# EAGLE library part SN74LVC2G241 (library bschulz)
SN74LVC2G241 - Dual Buffer and Driver with 3-State Outputs Characteristics: VCC: 1.65~5.5V Operating Temperature: -40°C to 85°C Number of Bits: 2 Inverting: No 5V Tolerent Input (Down Shift) Digikey: 296-32323-1-ND (VSSOP, DCU) <https://www.digikey.com/en/products/detail/texas-instruments/SN74LVC2G241DCUT/1592289> 296-11935-1-ND (MSOP, DCT) <https://www.digikey.com/en/products/detail/texas-instruments/SN74LVC2G241DCTR/389055>
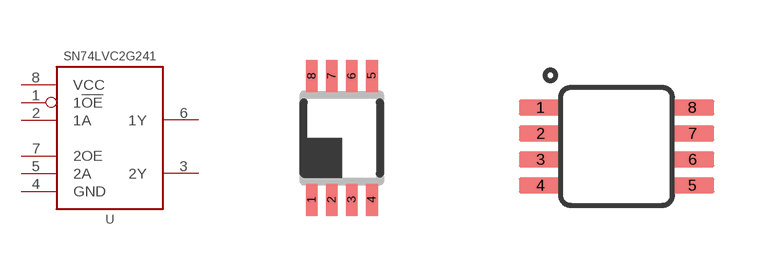
[diagram p144: symbol with the pads of DCU_(R-PDSO-G8); footprints DCU_(R-PDSO-G8), DCT0008A]

Designator prefix U

## SN74LVC2G241DCU (DIGIKEY: 296-32323-1-ND; MF: TI; MPN: SN74LVC2G241DCUT)  [DCU_(R-PDSO-G8)]
1  1!OE  in
2  1A  in
3  2Y  out
4  GND  pwr
5  2A  in
6  1Y  out
7  2OE  in
8  VCC  pwr

## SN74LVC2G241DCT (DIGIKEY: 296-11935-1-ND; MF: TI; MPN: SN74LVC2G241DCTR)  [DCT0008A]
Pads as for DCU_(R-PDSO-G8)

## Footprint DCU_(R-PDSO-G8) (pad centres in mm)
DCU (R-PDSO-G8) PLASTIC SMALL OUTLINE PACKAGE (DIE DOWN) Soure: Data sheet <http://www.ti.com/lit/ds/symlink/ads7042.pdf>
smd 0.3 x 0.8: 1 -0.75,-1.55; 2 -0.25,-1.55; 3 0.25,-1.55; 4 0.75,-1.55; 5 0.75,1.55; 6 0.25,1.55; 7 -0.25,1.55; 8 -0.75,1.55

## Footprint DCT0008A (pad centres in mm)
SSOP, 0.65mm pitch, 8 pin Datasheet <https://www.ti.com/general/docs/suppproductinfo.tsp?distId=10&gotoUrl=https%3A%2F%2Fwww.ti.com%2Flit%2Fgpn%2Ftxs0102>
smd 1.1 x 0.4: 1 -1.9,0.975; 2 -1.9,0.325; 3 -1.9,-0.325; 4 -1.9,-0.975; 5 1.9,-0.975; 6 1.9,-0.325; 7 1.9,0.325; 8 1.9,0.975